# EAGLE library part LM2623 (library LED_Matrix)
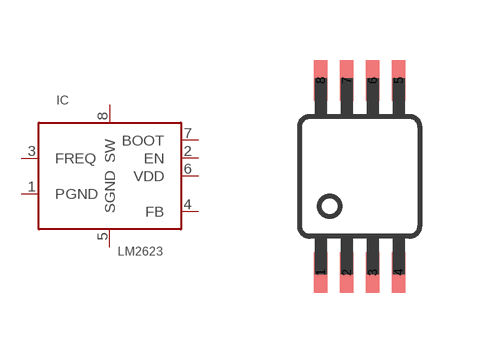
[diagram p5: symbol with the pads of SO08(MM); footprint SO08(MM)]

Designator prefix IC

## LM2623  [SO08(MM)]
1  PGND
2  EN
3  FREQ
4  FB
5  SGND
6  VDD
7  BOOT
8  SW

## Footprint SO08(MM) (pad centres in mm)
smd 0.33 x 1.02: 1 -0.975,-2.4; 2 -0.325,-2.4; 3 0.325,-2.4; 4 0.975,-2.4; 5 0.975,2.4; 6 0.325,2.4; 7 -0.325,2.4; 8 -0.975,2.4